# Altium footprint library Capacitor.PcbLib: 60 footprints (part 4 of 4)
Each footprint in its own frame and in the unit in brackets; x right, y up, seen from the top. Pads: shape width x height; smd on the part's side, far side on the other; paste and mask are expansions set on the pad; w line width, h text height; cw(c..) or ccw(c..) is an arc to the next point about the centre after c.
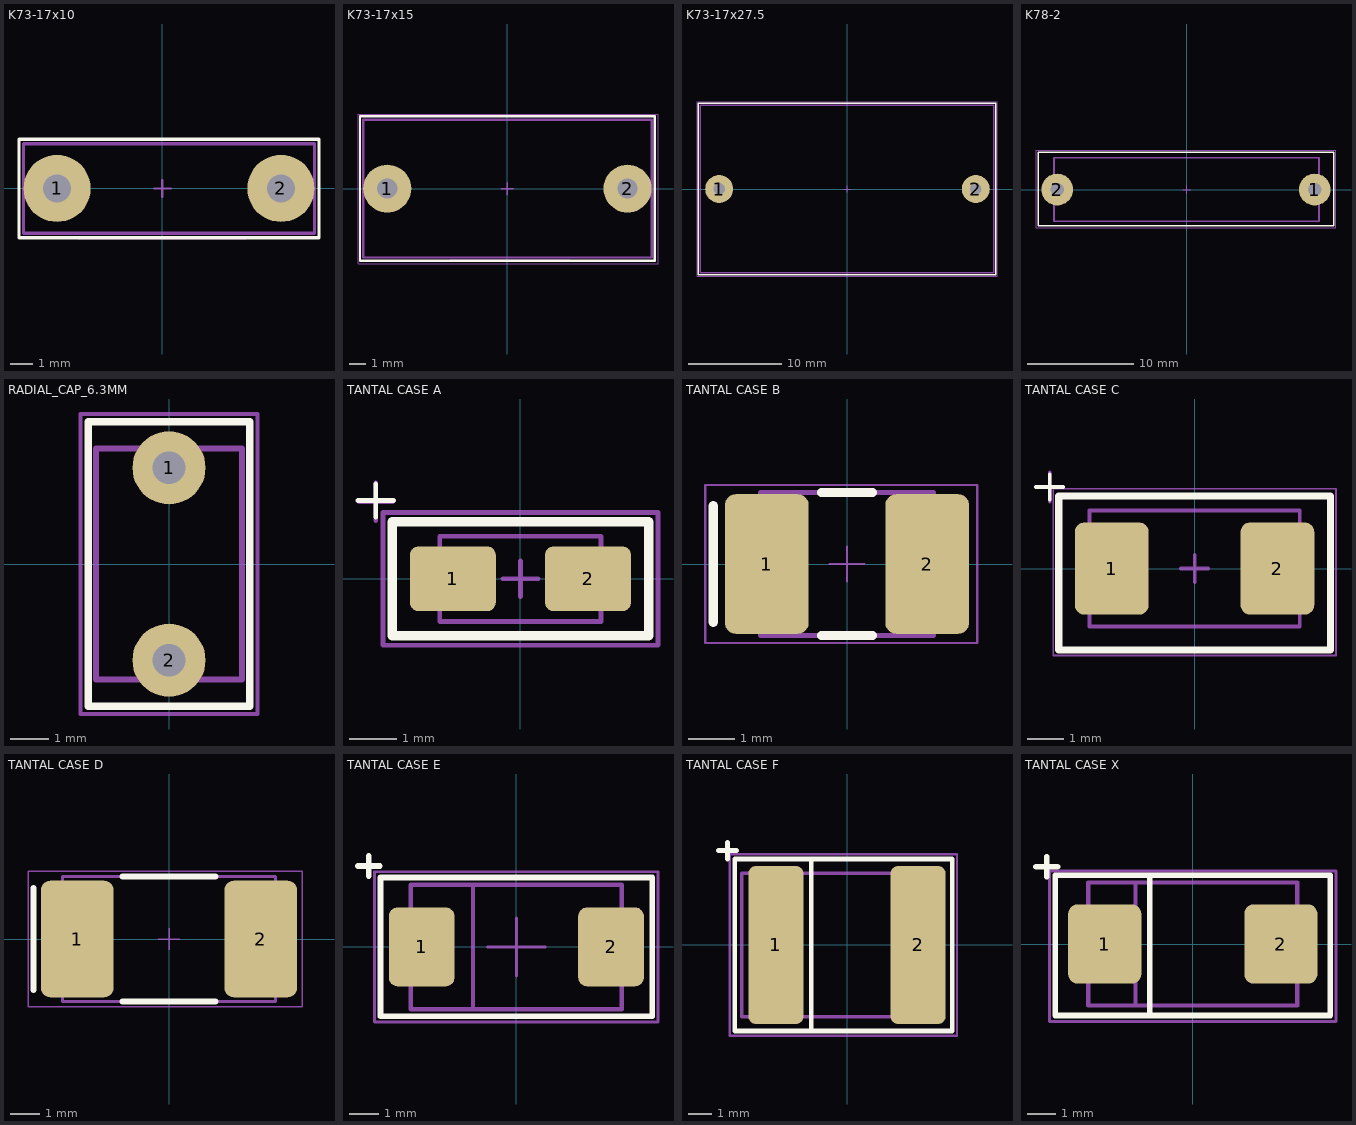
[diagram p3: the footprints below, top view; thin cyan lines are the x and y axes]

## K73-17x10 [mm]
pads (2):
  round 3 hole 1.25 mask+0.102: 1(-4.7,0)
  round 3 hole 1.25: 2(5.3,0)
Top Overlay:
  lines w0.15: -6.4,-2.2 7,-2.2 7,2.2 -6.4,2.2 -6.4,-2.2
Mechanical 7:
  lines w0.15: -6.2,-2 -6.2,2 6.8,2 6.8,-2 -6.2,-2
Mechanical 9:
  text ".Designator" at -4.6,-4.45 h3
Mechanical 10:
  text ".Comment" at -4.7,-6.2 h2
Mechanical 15:
  lines w0.05: -3.75,-2.25 3.75,-2.25 ; -3.75,2 3.75,2
  lines w0.1: -0.375,0 0.375,0 ; 0,-0.375 0,0.375
3D body "Ê73-17.STEP": height 10, standoff -5, extent -6.195,-2 6.805,2

## K73-17x15 [mm]
pads (2):
  round 3 hole 1.25 mask+0.102: 1(-7.5,0)
  round 3 hole 1.25: 2(7.5,0)
Top Overlay:
  lines w0.15: -9.2,-4.5 -9.2,4.525 9.2,4.525 9.2,-4.5 -9.2,-4.5
Mechanical 7:
  lines w0.15: -9,-4.3 9,-4.3 9,4.3 -9,4.3 -9,-4.3
Mechanical 9:
  text ".Designator" at -4.9,-6.85 h3
Mechanical 10:
  text ".Comment" at -4.9,-8.7 h2
Mechanical 15:
  lines w0.05: -3.6,-4.45 3.9,-4.45 ; -9.325,-4.7 9.4,-4.7 9.4,4.65 -9.325,4.65 -9.325,-4.7
  lines w0.1: -0.375,0 0.375,0 ; 0,-0.375 0,0.375
3D body "Ê73-17 èìï, 0.47 ìêÔ.STEP": height 15.5, standoff -5, extent -9,-4.25 9,4.25

## K73-17x27.5 [mm]
pads (2):
  round 3 hole 1.25 mask+0.102: 1(-13.75,0)
  round 3 hole 1.25: 2(13.75,0)
Top Overlay:
  lines w0.15: -16,-9.2 15.9,-9.2 15.9,9.2 -16,9.2 -16,-9.2
Mechanical 7:
  lines w0.15: -15.8,-9 -15.8,9 15.7,9 15.7,-9 -15.8,-9
Mechanical 9:
  text ".Designator" at -4.8,-11.85 h3
Mechanical 10:
  text ".Comment" at -4.8,-13.7 h2
Mechanical 15:
  lines w0.05: -16.125,-9.325 -16.125,9.325 16.025,9.325 16.025,-9.325 -16.125,-9.325
  lines w0.1: -0.375,0 0.375,0 ; 0,-0.375 0,0.375
3D body "Ê73-17 èìï, 1.5 ìêÔ.STEP": height 30.5, standoff -5, extent -15.75,-9 15.75,9

## K78-2 [mm]
pads (2):
  round 3 hole 1.25 mask+0.102: 1(12.1,0)
  round 3 hole 1.25: 2(-12.2,0)
Top Overlay:
  lines w0.15: -14,-3.4 -14,3.5 13.9,3.5 13.9,-3.4 -14,-3.4
Mechanical 7:
  lines w0.15: -12.5,-3 12.5,-3 12.5,3 -12.5,3 -12.5,-3
Mechanical 9:
  text ".Designator" at -4.225,-5.95 h3
Mechanical 10:
  text ".Comment" at -4.3,-7.9 h2
Mechanical 15:
  lines w0.05: -14.2,-3.6 -14.2,3.7 14.1,3.7 14.1,-3.6 -14.2,-3.6
  lines w0.1: -0.375,0 0.375,0 ; 0,-0.375 0,0.375
3D body "Ê78-2.STEP": height 13, standoff -5, extent -12.5,-3 12.5,3

## RADIAL_CAP_6.3MM [mm]
pads (2):
  round 1.9 hole 0.85 mask+0.102: 1(0,2.5)
  round 1.9 hole 0.85: 2(0,-2.5)
Top Overlay:
  lines w0.2: -2.1,-3.7 -2.1,3.7 2.1,3.7 2.1,-3.7 -2.1,-3.7
Mechanical 7:
  lines w0.15: -1.9,-3 -1.9,3 1.9,3 1.9,-3 -1.9,-3
Mechanical 9:
  text ".Designator" at -4.7,4.7 h3
Mechanical 10:
  text ".Comment" at -2.9,-5.2 h2
Mechanical 15:
  lines w0.1: -2.3,-3.9 -2.3,3.9 2.3,3.9 2.3,-3.9 -2.3,-3.9
3D body "User Library-6mm radial ceramic disc capacitor.step": height 8.5, standoff -25.12, extent -1.9,-3 1.9,3

## TANTAL CASE A [mm]
height 1.6
pads (2):
  rrect25% 1.81x1.36 smd: 1(-1.425,0) 2(1.425,0)
Top Overlay:
  lines w0.1: -3.425,1.65 -2.675,1.65 ; -3.05,1.3 -3.05,2
  lines w0.2: -2.7,-1.2 2.7,-1.2 2.7,1.2 -2.7,1.2 -2.7,-1.2
Mechanical 7:
  lines w0.1: -3.4,1.625 -2.7,1.625 ; -3.05,1.225 -3.05,2.025 ; -1.7,-0.9 1.7,-0.9 1.7,0.9 -1.7,0.9 -1.7,-0.9
Mechanical 9:
  text ".Designator" at -5.125,-4.05 h3
Mechanical 10:
  text ".Comment" at -4.9,-5.9 h2
Mechanical 15:
  lines w0.1: -0.375,0 0.375,0 ; 0,-0.375 0,0.375 ; -2.9,-1.4 2.9,-1.4 2.9,1.4 -2.9,1.4 -2.9,-1.4
3D body "User Library-CAP_TAN_C3216_1206.step": height 1.8, standoff 0, extent -1.7,-0.9 1.7,0.9

## TANTAL CASE B [mm] "0.138\" L x 0.110\" W (3.50mm x 2.80mm)"
height 2.11
pads (2):
  rrect25% 1.8x3 smd: 1(-1.725,0) 2(1.725,0)
Top Overlay:
  lines w0.2: -2.875,-1.25 -2.875,1.25 ; -0.55,-1.537 0.55,-1.537 ; -0.55,1.537 0.55,1.537
Mechanical 13:
  lines w0.1: -1.867,-1.537 -1.867,1.537 1.867,1.537 1.867,-1.537 -1.867,-1.537
Mechanical 15:
  lines w0.05: -0.375,0 0.375,0 ; 0,-0.375 0,0.375 ; -3.05,-1.7 -3.05,1.7 2.8,1.7 2.8,-1.7 -3.05,-1.7
3D body "B-CASE.stp": height 2.13, standoff 0, extent -1.867,-1.537 1.867,1.537

## TANTAL CASE C [mil]
height 98.43
pads (2):
  rrect25% 80x100 smd: 1(-90,0) 2(90,0)
Top Overlay:
  lines w3.94: -172.24,88.58 -142.72,88.58 ; -157.48,74.8 -157.48,102.36
  lines w7.87: -147.64,-88.58 147.64,-88.58 147.64,78.74 -147.64,78.74 -147.64,-88.58
Mechanical 7:
  lines w3.94: -171.26,88.58 -143.7,88.58 ; -157.48,72.83 -157.48,104.33 ; -114.17,-62.99 114.17,-62.99 114.17,62.99 -114.17,62.99 -114.17,-62.99
Mechanical 9:
  text ".Designator" at -133.86,102.36 h118.11
Mechanical 10:
  text ".Comment" at -149.61,-157.48 h78.74
Mechanical 15:
  lines w1.97: -153.54,-94.49 -153.54,86.61 153.54,86.61 153.54,-94.49 -153.54,-94.49
  lines w3.94: -14.76,0 14.76,0 ; 0,-14.76 0,14.76
3D body "User Library-Tantalum Size C.STEP": height 102.36, standoff 0, extent -114.17,-62.99 114.18,63

## TANTAL CASE D [mm] "0.287\" L x 0.169\" W (7.30mm x 4.30mm)"
height 3.1
pads (2):
  rrect25% 2.5x4 smd: 1(-3.15,0) 2(3.15,0)
Top Overlay:
  lines w0.2: -4.654,-1.75 -4.654,1.75 ; -1.6,-2.15 1.6,-2.15 ; -1.6,2.15 1.6,2.15
Mechanical 13:
  lines w0.1: -3.65,-2.15 -3.65,2.15 3.65,2.15 3.65,-2.15 -3.65,-2.15
Mechanical 15:
  lines w0.05: -0.375,0 0.375,0 ; 0,-0.375 0,0.375 ; -4.825,-2.325 -4.825,2.325 4.575,2.325 4.575,-2.325 -4.825,-2.325
3D body "593D106X9035D2TE3.step": height 3.1, standoff 0, extent -3.65,-2.15 3.65,2.15

## TANTAL CASE E [mm]
height 4.1
pads (2):
  rrect25% 2.27x2.72 smd: 1(-3.275,0) 2(3.275,0)
Top Overlay:
  lines w0.2: -5.475,2.8 -4.725,2.8 ; -5.1,2.45 -5.1,3.15 ; -4.7,-2.4 -4.7,2.4 4.7,2.4 4.7,-2.4 -4.7,-2.4
Mechanical 7:
  lines w0.15: -1.5,-2.15 -1.5,2.15 ; -3.65,-2.15 -3.65,2.15 3.65,2.15 3.65,-2.15 -3.65,-2.15
Mechanical 9:
  text ".Designator" at -4.2,3 h3
Mechanical 10:
  text ".Comment" at -2.3,-4.2 h2
Mechanical 15:
  lines w0.1: -1,0 1,0 ; 0,-1 0,1 ; -4.9,-2.6 -4.9,2.6 4.9,2.6 4.9,-2.6 -4.9,-2.6
3D body "ECASD91B107M012K00.stp": height 4.5, standoff 0, extent -3.65,-2.15 3.65,2.15

## TANTAL CASE F [mm]
height 4.1
pads (2):
  rrect25% 2.3x6.6 smd: 1(-2.975,0) 2(2.975,0)
Top Overlay:
  lines w0.2: -5.375,3.95 -4.625,3.95 ; -5,3.6 -5,4.3 ; -1.5,-3.6 -1.5,3.6 ; -4.7,-3.6 4.4,-3.6 4.4,3.6 -4.7,3.6 -4.7,-3.6
Mechanical 7:
  lines w0.15: -2,-3 -2,3 ; -4.4,-3 3,-3 3,3 -4.4,3 -4.4,-3
Mechanical 9:
  text ".Designator" at -4.2,4.5 h3
Mechanical 10:
  text ".Comment" at -2.9,-5.5 h2
Mechanical 15:
  lines w0.1: -4.9,-3.8 4.6,-3.8 4.6,3.8 -4.9,3.8 -4.9,-3.8
3D body "User Library-597D-F.step": height 4.7, standoff 0, extent -4.4,-3 3,3

## TANTAL CASE X [mm]
height 4.1
pads (2):
  rrect25% 2.55x2.77 smd: 1(-3.075,0) 2(3.075,0)
Top Overlay:
  lines w0.2: -5.475,2.7 -4.725,2.7 ; -5.1,2.35 -5.1,3.05 ; -1.5,-2.5 -1.5,2.4 ; -4.8,-2.5 -4.8,2.4 4.8,2.4 4.8,-2.5 -4.8,-2.5
Mechanical 7:
  lines w0.15: -2,-2.15 -2,2.15 ; -3.65,-2.15 -3.65,2.15 3.65,2.15 3.65,-2.15 -3.65,-2.15
Mechanical 9:
  text ".Designator" at -4.2,3 h3
Mechanical 10:
  text ".Comment" at -2.3,-4.2 h2
Mechanical 15:
  lines w0.1: -5,-2.7 -5,2.55 5,2.55 5,-2.7 -5,-2.7
3D body "User Library-CaseX_7343-43.step": height 4, standoff 0, extent -3.65,-2.15 3.65,2.15